# Altium footprint library CONNECTOR.PcbLib: 181 footprints (part 9 of 12)
Each footprint in its own frame and in the unit in brackets; x right, y up, seen from the top. Pads: shape width x height; smd on the part's side, far side on the other; paste and mask are expansions set on the pad; w line width, h text height; cw(c..) or ccw(c..) is an arc to the next point about the centre after c.
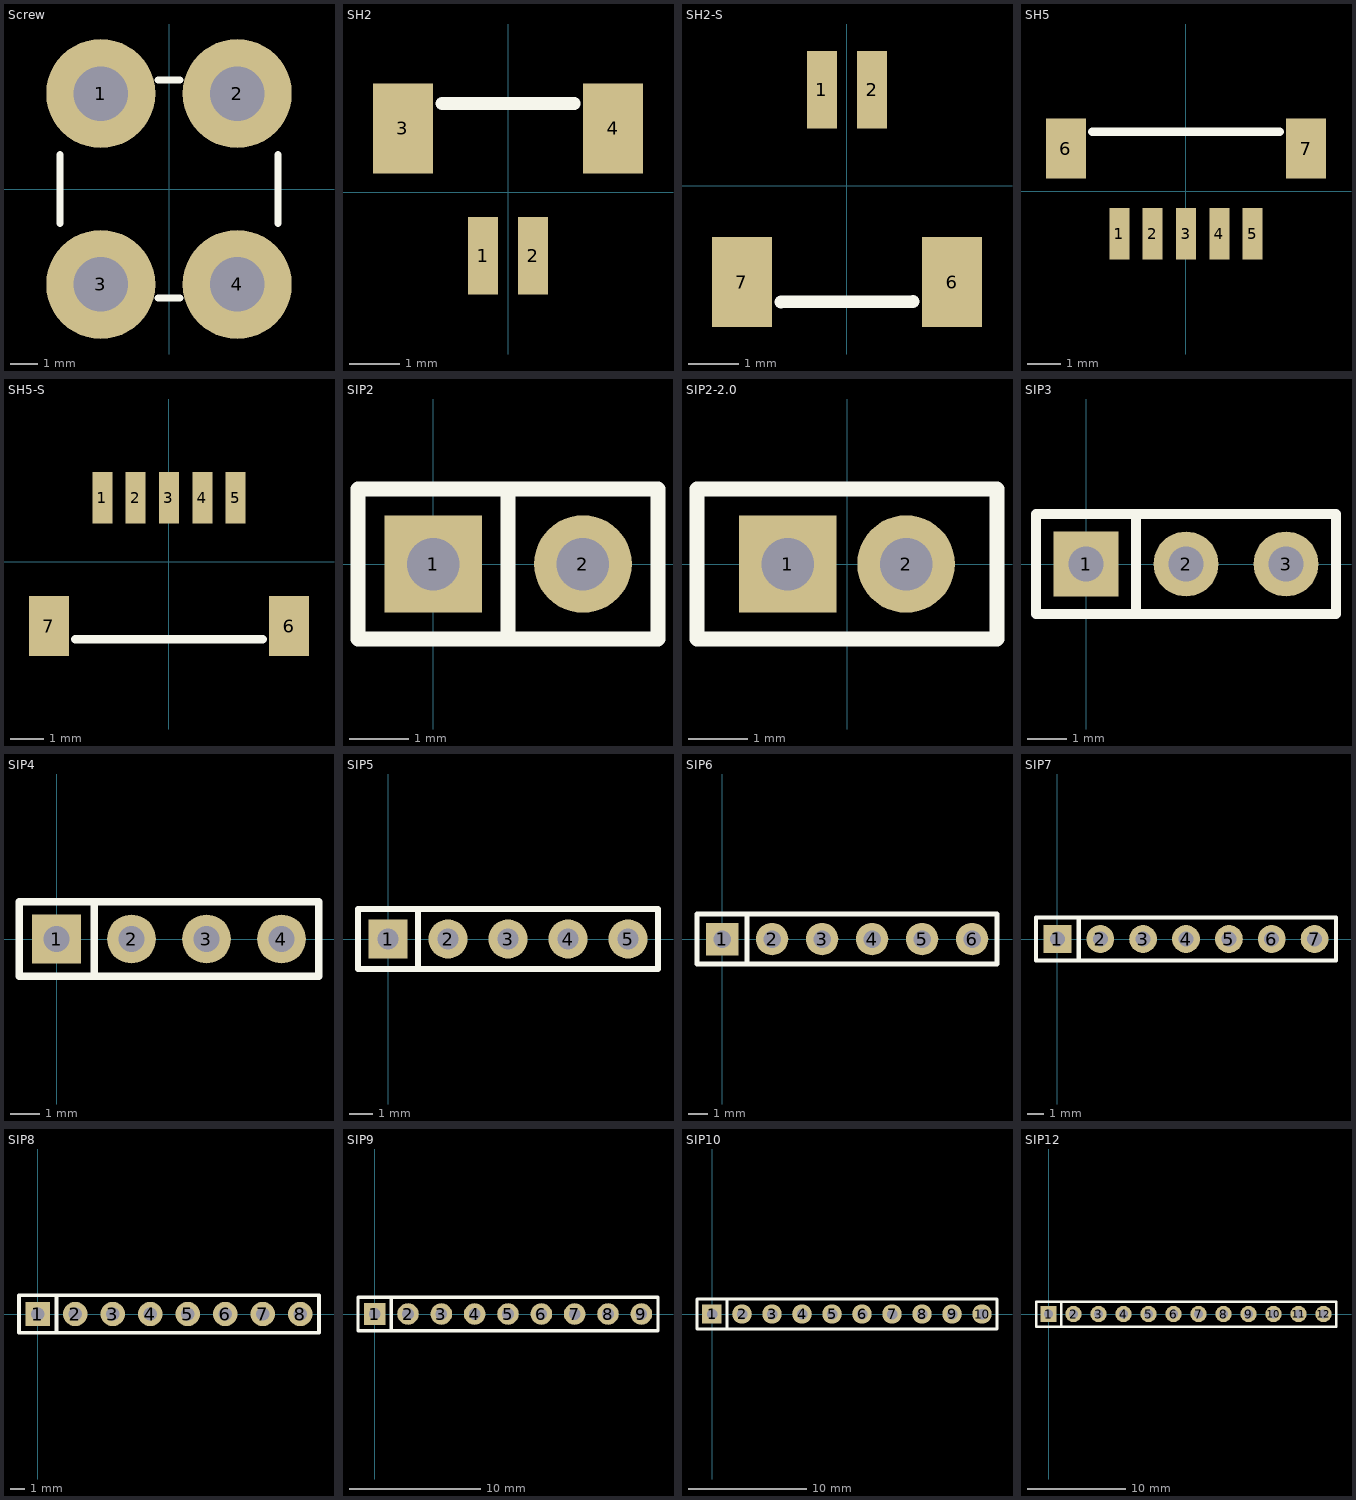
[diagram p8: the footprints below, top view; thin cyan lines are the x and y axes]

## Screw [mm] "PCB mount screw"
height 5.3
pads (4):
  round 4 hole 2: 1(-2.5,3.5) 2(2.5,3.5) 3(-2.5,-3.5) 4(2.5,-3.5)
Top Overlay:
  lines w0.254: -4,-1.27 -4,1.27 ; -0.4,-4 0.4,-4 ; -0.4,4 0.4,4 ; 4,-1.27 4,1.27

## SH2 [mm] "pitch 1mm SMD 2pin top entry"
height 6.3
pads (4):
  rect 0.6x1.55 smd: 1(-0.5,-1.275) 2(0.5,-1.275)
  rect 1.2x1.8 smd: 3(-2.1,1.275) 4(2.1,1.275)
Top Overlay:
  lines w0.254: -1.319,1.773 1.322,1.773

## SH2-S [mm] "Pitch 1mm,SMD,2pins,Side entry type"
height 2.95
pads (4):
  rect 0.6x1.55 smd: 1(-0.5,1.925) 2(0.5,1.925)
  rect 1.2x1.8 smd: 6(2.1,-1.925) 7(-2.1,-1.925)
Top Overlay:
  lines w0.254: -1.319,-2.322 1.321,-2.311

## SH5 [mm] "pitch 1mm SMD 5pins top entry"
height 6.3
pads (7):
  rect 0.6x1.55 smd: 1(-2,-1.275) 2(-1,-1.275) 3(0,-1.275) 4(1,-1.275) 5(2,-1.275)
  rect 1.2x1.8 smd: 6(-3.6,1.275) 7(3.6,1.275)
Top Overlay:
  lines w0.254: -2.819,1.773 2.819,1.773

## SH5-S [mm] "Pitch 1mm SMD 5pins,side entry type"
height 2.95
pads (7):
  rect 0.6x1.55 smd: 1(-2,1.925) 2(-1,1.925) 3(0,1.925) 4(1,1.925) 5(2,1.925)
  rect 1.2x1.8 smd: 6(3.6,-1.925) 7(-3.6,-1.925)
Top Overlay:
  lines w0.254: -2.819,-2.322 2.819,-2.322

## SIP2 [mil]
pads (2):
  rect 65x65 hole 35: 1(0,0)
  round 65 hole 35: 2(100,0)
Top Overlay:
  lines w10: 50,-50 50,50 ; -50,-50 -50,50 150,50 150,-50 -50,-50

## SIP2-2.0 [mil] "2.0mm pitch"
height 118.11
pads (2):
  rect 65x65 hole 35: 1(-39.37,0)
  round 65 hole 35: 2(39.37,0)
Top Overlay:
  lines w10: -100,-50 -100,50 100,50 100,-50 -100,-50

## SIP3 [mil]
pads (3):
  rect 65x65 hole 35: 1(0,0)
  round 65 hole 35: 2(100,0) 3(200,0)
Top Overlay:
  lines w10: 50,-50 50,50 ; -50,-50 250,-50 250,50 -50,50 -50,-50

## SIP4 [mil]
pads (4):
  rect 65x65 hole 35: 1(0,0)
  round 65 hole 35: 2(100,0) 3(200,0) 4(300,0)
Top Overlay:
  lines w10: 50,-50 50,50 ; -50,-50 -50,50 350,50 350,-50 -50,-50

## SIP5 [mil]
pads (5):
  rect 65x65 hole 35: 1(0,0)
  round 65 hole 35: 2(100,0) 3(200,0) 4(300,0) 5(400,0)
Top Overlay:
  lines w10: 50,-50 50,50 ; -50,-50 -50,50 450,50 450,-50 -50,-50

## SIP6 [mil]
pads (6):
  rect 65x65 hole 35: 1(0,0)
  round 65 hole 35: 2(100,0) 3(200,0) 4(300,0) 5(400,0) 6(500,0)
Top Overlay:
  lines w10: 50,-50 50,50 ; -50,-50 -50,50 550,50 550,-50 -50,-50

## SIP7 [mil]
pads (7):
  rect 65x65 hole 35: 1(0,0)
  round 65 hole 35: 2(100,0) 3(200,0) 4(300,0) 5(400,0) 6(500,0) 7(600,0)
Top Overlay:
  lines w10: 50,-50 50,50 ; -50,-50 -50,50 650,50 650,-50 -50,-50

## SIP8 [mil]
pads (8):
  rect 65x65 hole 35: 1(0,0)
  round 65 hole 35: 2(100,0) 3(200,0) 4(300,0) 5(400,0) 6(500,0) 7(600,0) 8(700,0)
Top Overlay:
  lines w10: 50,-50 50,50 ; -50,-50 750,-50 750,50 -50,50 -50,-50

## SIP9 [mil]
pads (9):
  rect 65x65 hole 35: 1(0,0)
  round 65 hole 35: 2(100,0) 3(200,0) 4(300,0) 5(400,0) 6(500,0) 7(600,0) 8(700,0) 9(800,0)
Top Overlay:
  lines w10: 50,-50 50,50 ; -50,-50 -50,50 850,50 850,-50 -50,-50

## SIP10 [mil]
pads (10):
  rect 65x65 hole 35: 1(0,0)
  round 65 hole 35: 2(100,0) 3(200,0) 4(300,0) 5(400,0) 6(500,0) 7(600,0) 8(700,0) 9(800,0) 10(900,0)
Top Overlay:
  lines w10: 50,-50 50,50 ; -50,-50 -50,50 950,50 950,-50 -50,-50

## SIP12 [mil]
pads (12):
  rect 65x65 hole 35: 1(0,0)
  round 65 hole 35: 2(100,0) 3(200,0) 4(300,0) 5(400,0) 6(500,0) 7(600,0) 8(700,0) 9(800,0) 10(900,0) 11(1000,0) 12(1100,0)
Top Overlay:
  lines w10: 50,-50 50,50 ; -50,-50 -50,50 1150,50 1150,-50 -50,-50